# EAGLE library part NE0-NANO (library Coert-Vonk)
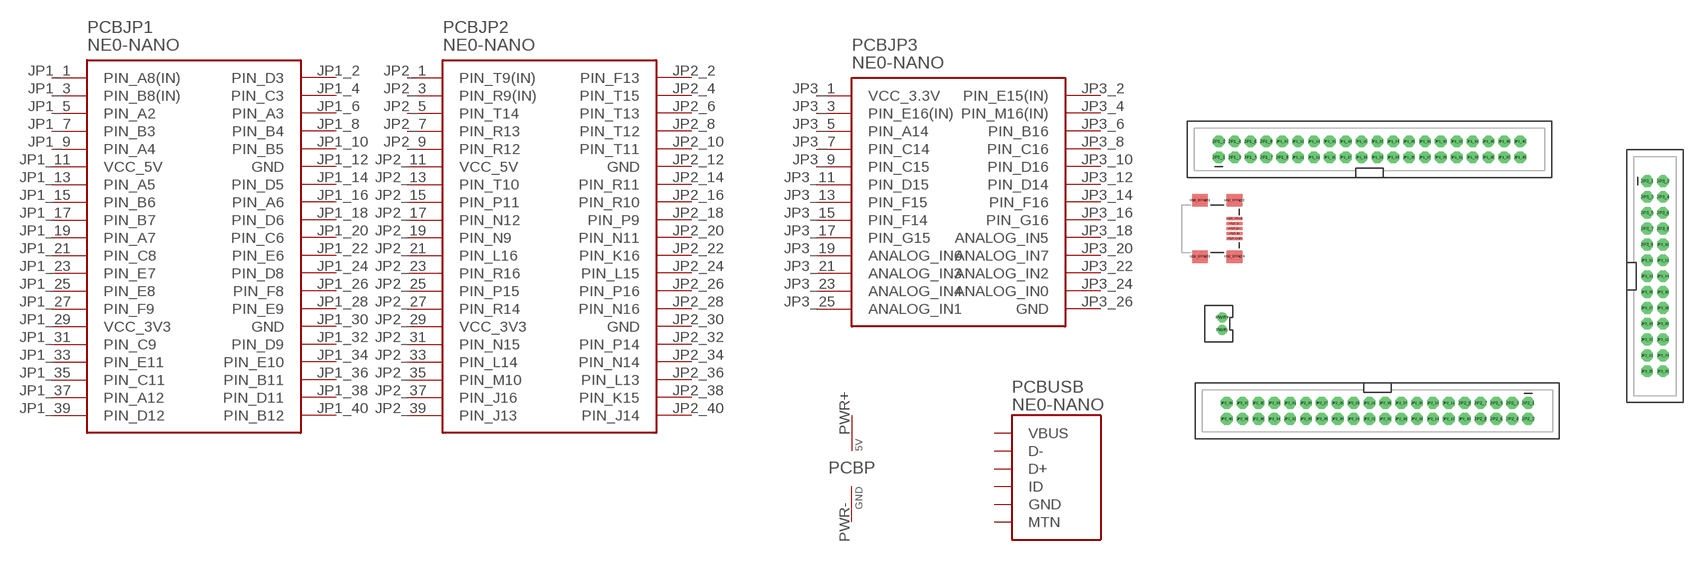
[diagram p5: symbol with the pads of NE0-NANO; footprint NE0-NANO]

Designator prefix PCB; gates JP1=NE0-NANO-JP1 JP2=NE0-NANO-JP2 JP3=NE0-NANO-JP3 P=5V-GND USB=USB-5PIN

## NE0-NANO  [NE0-NANO]
JP1_1  JP1:PIN_A8(IN)  in
JP1_2  JP1:PIN_D3
JP1_3  JP1:PIN_B8(IN)  in
JP1_4  JP1:PIN_C3
JP1_5  JP1:PIN_A2
JP1_6  JP1:PIN_A3
JP1_7  JP1:PIN_B3
JP1_8  JP1:PIN_B4
JP1_9  JP1:PIN_A4
JP1_10  JP1:PIN_B5
JP1_11  JP1:VCC_5V
JP1_12  JP1:GND
JP1_13  JP1:PIN_A5
JP1_14  JP1:PIN_D5
JP1_15  JP1:PIN_B6
JP1_16  JP1:PIN_A6
JP1_17  JP1:PIN_B7
JP1_18  JP1:PIN_D6
JP1_19  JP1:PIN_A7
JP1_20  JP1:PIN_C6
JP1_21  JP1:PIN_C8
JP1_22  JP1:PIN_E6
JP1_23  JP1:PIN_E7
JP1_24  JP1:PIN_D8
JP1_25  JP1:PIN_E8
JP1_26  JP1:PIN_F8
JP1_27  JP1:PIN_F9
JP1_28  JP1:PIN_E9
JP1_29  JP1:VCC_3V3
JP1_30  JP1:GND
JP1_31  JP1:PIN_C9
JP1_32  JP1:PIN_D9
JP1_33  JP1:PIN_E11
JP1_34  JP1:PIN_E10
JP1_35  JP1:PIN_C11
JP1_36  JP1:PIN_B11
JP1_37  JP1:PIN_A12
JP1_38  JP1:PIN_D11
JP1_39  JP1:PIN_D12
JP1_40  JP1:PIN_B12
JP2_1  JP2:PIN_T9(IN)  in
JP2_2  JP2:PIN_F13
JP2_3  JP2:PIN_R9(IN)  in
JP2_4  JP2:PIN_T15
JP2_5  JP2:PIN_T14
JP2_6  JP2:PIN_T13
JP2_7  JP2:PIN_R13
JP2_8  JP2:PIN_T12
JP2_9  JP2:PIN_R12
JP2_10  JP2:PIN_T11
JP2_11  JP2:VCC_5V
JP2_12  JP2:GND
JP2_13  JP2:PIN_T10
JP2_14  JP2:PIN_R11
JP2_15  JP2:PIN_P11
JP2_16  JP2:PIN_R10
JP2_17  JP2:PIN_N12
JP2_18  JP2:PIN_P9
JP2_19  JP2:PIN_N9
JP2_20  JP2:PIN_N11
JP2_21  JP2:PIN_L16
JP2_22  JP2:PIN_K16
JP2_23  JP2:PIN_R16
JP2_24  JP2:PIN_L15
JP2_25  JP2:PIN_P15
JP2_26  JP2:PIN_P16
JP2_27  JP2:PIN_R14
JP2_28  JP2:PIN_N16
JP2_29  JP2:VCC_3V3
JP2_30  JP2:GND
JP2_31  JP2:PIN_N15
JP2_32  JP2:PIN_P14
JP2_33  JP2:PIN_L14
JP2_34  JP2:PIN_N14
JP2_35  JP2:PIN_M10
JP2_36  JP2:PIN_L13
JP2_37  JP2:PIN_J16
JP2_38  JP2:PIN_K15
JP2_39  JP2:PIN_J13
JP2_40  JP2:PIN_J14
JP3_1  JP3:VCC_3.3V
JP3_2  JP3:PIN_E15(IN)  in
JP3_3  JP3:PIN_E16(IN)  in
JP3_4  JP3:PIN_M16(IN)  in
JP3_5  JP3:PIN_A14
JP3_6  JP3:PIN_B16
JP3_7  JP3:PIN_C14
JP3_8  JP3:PIN_C16
JP3_9  JP3:PIN_C15
JP3_10  JP3:PIN_D16
JP3_11  JP3:PIN_D15
JP3_12  JP3:PIN_D14
JP3_13  JP3:PIN_F15
JP3_14  JP3:PIN_F16
JP3_15  JP3:PIN_F14
JP3_16  JP3:PIN_G16
JP3_17  JP3:PIN_G15
JP3_18  JP3:ANALOG_IN5
JP3_19  JP3:ANALOG_IN6
JP3_20  JP3:ANALOG_IN7
JP3_21  JP3:ANALOG_IN3
JP3_22  JP3:ANALOG_IN2
JP3_23  JP3:ANALOG_IN4
JP3_24  JP3:ANALOG_IN0
JP3_25  JP3:ANALOG_IN1
JP3_26  JP3:GND
PWR+  P:5V  pas
PWR-  P:GND  sup
USB_D+  USB:D+
USB_D-  USB:D-
USB_GND  USB:GND
USB_ID  USB:ID
USB_MTN@1  USB:MTN
USB_VBUS  USB:VBUS

## Footprint NE0-NANO (pad centres in mm)
drill 1.016 pad 1.88 octagon: JP1_1 -17.78,16.51; JP1_2 -17.78,19.05; JP1_3 -15.24,16.51; JP1_4 -15.24,19.05; JP1_5 -12.7,16.51; JP1_6 -12.7,19.05; JP1_7 -10.16,16.51; JP1_8 -10.16,19.05; JP1_9 -7.62,16.51; JP1_10 -7.62,19.05; JP1_11 -5.08,16.51; JP1_12 -5.08,19.05; JP1_13 -2.54,16.51; JP1_14 -2.54,19.05; JP1_15 0,16.51; JP1_16 0,19.05; JP1_17 2.54,16.51; JP1_18 2.54,19.05; JP1_19 5.08,16.51; JP1_20 5.08,19.05; JP1_21 7.62,16.51; JP1_22 7.62,19.05; JP1_23 10.16,16.51; JP1_24 10.16,19.05; JP1_25 12.7,16.51; JP1_26 12.7,19.05; JP1_27 15.24,16.51; JP1_28 15.24,19.05; JP1_29 17.78,16.51; JP1_30 17.78,19.05; JP1_31 20.32,16.51; JP1_32 20.32,19.05; JP1_33 22.86,16.51; JP1_34 22.86,19.05; JP1_35 25.4,16.51; JP1_36 25.4,19.05; JP1_37 27.94,16.51; JP1_38 27.94,19.05; JP1_39 30.48,16.51; JP1_40 30.48,19.05; JP2_1 31.75,-22.86; JP2_2 31.75,-25.4; JP2_3 29.21,-22.86; JP2_4 29.21,-25.4; JP2_5 26.67,-22.86; JP2_6 26.67,-25.4; JP2_7 24.13,-22.86; JP2_8 24.13,-25.4; JP2_9 21.59,-22.86; JP2_10 21.59,-25.4; JP2_11 19.05,-22.86; JP2_12 19.05,-25.4; JP2_13 16.51,-22.86; JP2_14 16.51,-25.4; JP2_15 13.97,-22.86; JP2_16 13.97,-25.4; JP2_17 11.43,-22.86; JP2_18 11.43,-25.4; JP2_19 8.89,-22.86; JP2_20 8.89,-25.4; JP2_21 6.35,-22.86; JP2_22 6.35,-25.4; JP2_23 3.81,-22.86; JP2_24 3.81,-25.4; JP2_25 1.27,-22.86; JP2_26 1.27,-25.4; JP2_27 -1.27,-22.86; JP2_28 -1.27,-25.4; JP2_29 -3.81,-22.86; JP2_30 -3.81,-25.4; JP2_31 -6.35,-22.86; JP2_32 -6.35,-25.4; JP2_33 -8.89,-22.86; JP2_34 -8.89,-25.4; JP2_35 -11.43,-22.86; JP2_36 -11.43,-25.4; JP2_37 -13.97,-22.86; JP2_38 -13.97,-25.4; JP2_39 -16.51,-22.86; JP2_40 -16.51,-25.4; JP3_1 50.8,12.7; JP3_2 53.34,12.7; JP3_3 50.8,10.16; JP3_4 53.34,10.16; JP3_5 50.8,7.62; JP3_6 53.34,7.62; JP3_7 50.8,5.08; JP3_8 53.34,5.08; JP3_9 50.8,2.54; JP3_10 53.34,2.54; JP3_11 50.8,0; JP3_12 53.34,0; JP3_13 50.8,-2.54; JP3_14 53.34,-2.54; JP3_15 50.8,-5.08; JP3_16 53.34,-5.08; JP3_17 50.8,-7.62; JP3_18 53.34,-7.62; JP3_19 50.8,-10.16; JP3_20 53.34,-10.16; JP3_21 50.8,-12.7; JP3_22 53.34,-12.7; JP3_23 50.8,-15.24; JP3_24 53.34,-15.24; JP3_25 50.8,-17.78; JP3_26 53.34,-17.78
drill 0.7 pad 1.6: PWR+ -17.23,-9.16; PWR- -17.23,-11.16
smd 2.5 x 0.5: USB_D+ -15.28,5.08; USB_D- -15.28,5.88; USB_GND -15.28,3.48; USB_ID -15.28,4.28; USB_VBUS -15.28,6.68
smd 2.5 x 2: USB_MTN@1 -20.78,9.58; USB_MTN@2 -15.28,9.58; USB_MTN@3 -20.78,0.58; USB_MTN@4 -15.28,0.58